# Altium footprint library PAL.PcbLib: 209 footprints (part 12 of 14)
Each footprint in its own frame and in the unit in brackets; x right, y up, seen from the top. Pads: shape width x height; smd on the part's side, far side on the other; paste and mask are expansions set on the pad; w line width, h text height; cw(c..) or ccw(c..) is an arc to the next point about the centre after c.
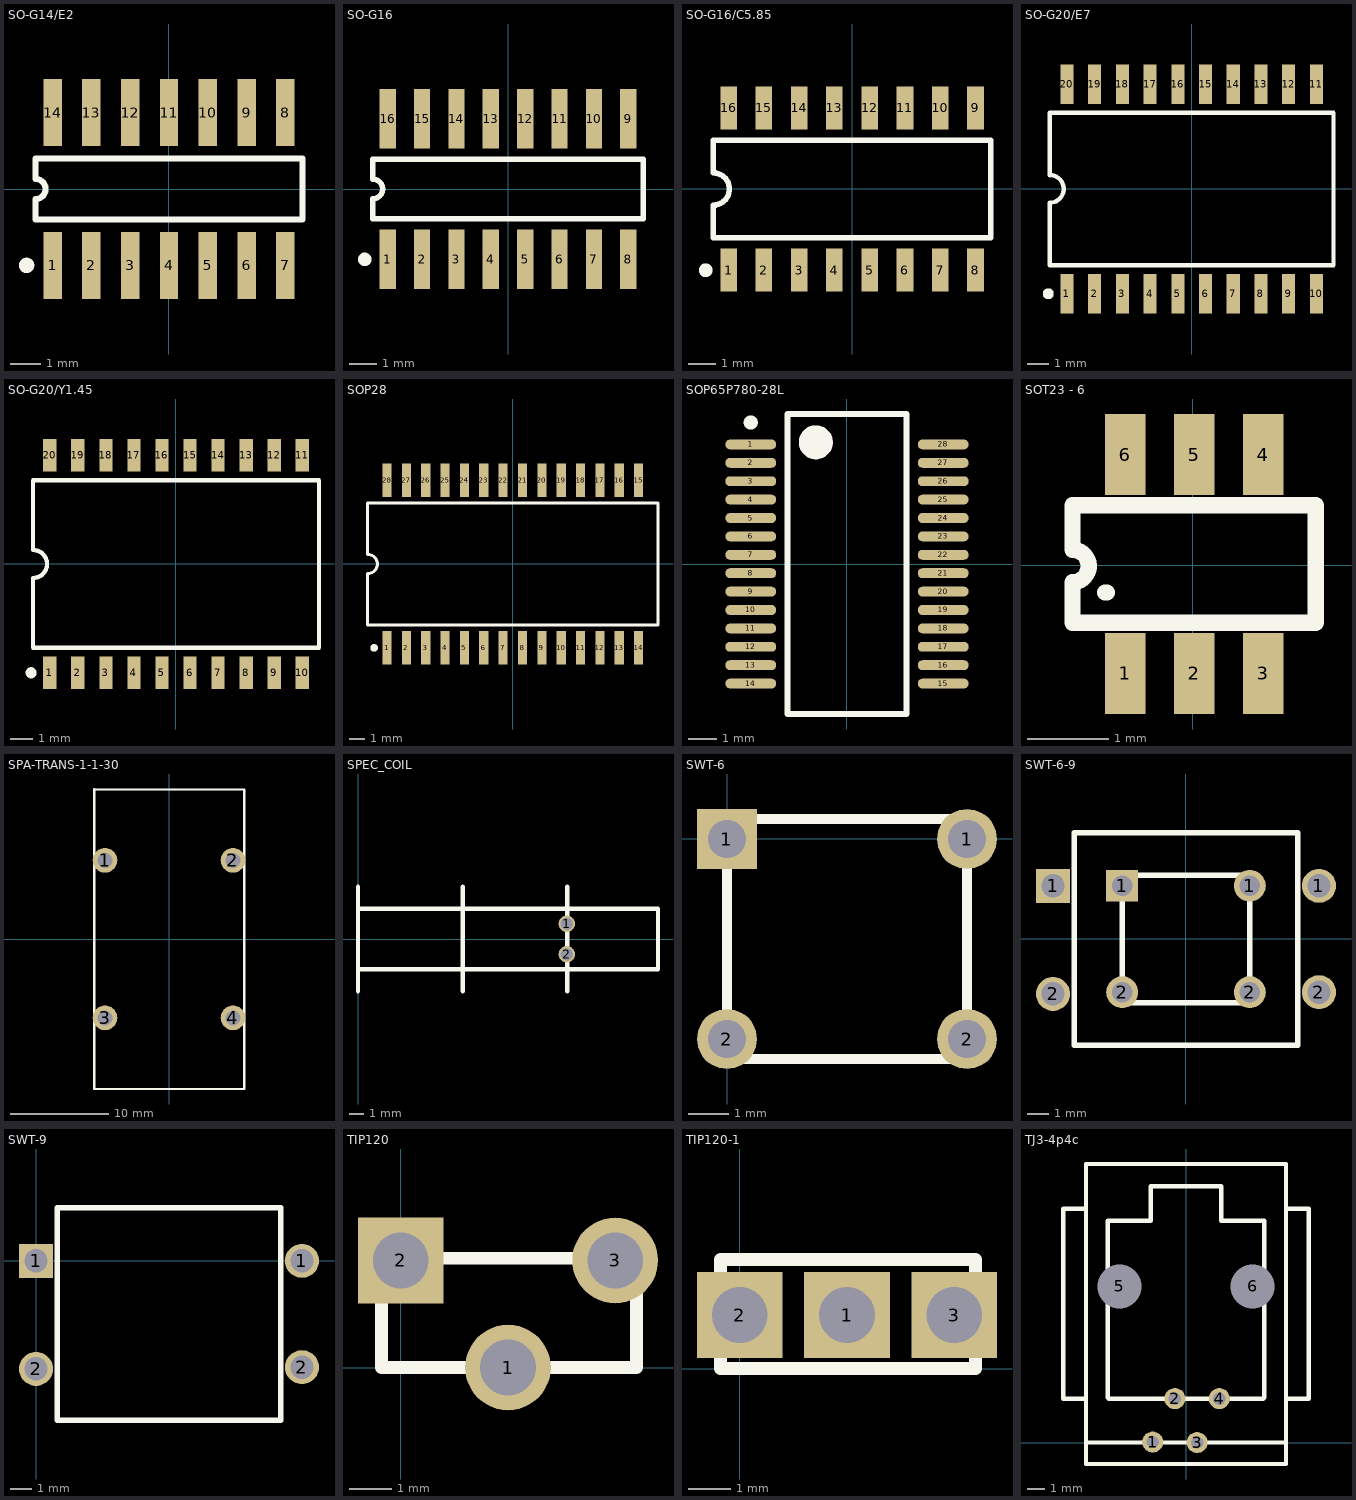
[diagram p11: the footprints below, top view; thin cyan lines are the x and y axes]

## SO-G14/E2 [mm]
pads (14):
  rect 0.6x2.2 smd: 1(-3.808,-2.494) 2(-2.538,-2.494) 3(-1.268,-2.494) 4(0.002,-2.494) 5(1.272,-2.494) 6(2.542,-2.494) 7(3.812,-2.494) 8(3.812,2.506) 9(2.542,2.506) 10(1.272,2.506) 11(0.002,2.506) 12(-1.268,2.506) 13(-2.538,2.506) 14(-3.808,2.506)
Top Overlay:
  circle w0.25: c-4.658,-2.494 r0.125
  lines w0.2: -4.373,-0.994 -4.373,-0.327 ccw(c-4.373,0.006) -4.373,0.34 -4.373,1.006 4.377,1.006 4.377,-0.994 -4.373,-0.994

## SO-G16 [mm]
pads (16):
  rect 0.6x2.2 smd: 1(-4.453,-2.589) 2(-3.183,-2.589) 3(-1.913,-2.589) 4(-0.643,-2.589) 5(0.627,-2.589) 6(1.897,-2.589) 7(3.167,-2.589) 8(4.437,-2.589) 9(4.437,2.611) 10(3.167,2.611) 11(1.897,2.611) 12(0.627,2.611) 13(-0.643,2.611) 14(-1.913,2.611) 15(-3.183,2.611) 16(-4.453,2.611)
Top Overlay:
  circle w0.25: c-5.303,-2.589 r0.125
  lines w0.2: -5.008,-1.089 4.992,-1.089 4.992,1.111 -5.008,1.111 -5.008,0.378 cw(c-5.008,0.011) -5.008,-0.356 -5.008,-1.089

## SO-G16/C5.85 [mm]
pads (16):
  rect 0.6x1.55 smd: 1(-4.452,-2.93) 2(-3.182,-2.93) 3(-1.912,-2.93) 4(-0.642,-2.93) 5(0.628,-2.93) 6(1.898,-2.93) 7(3.168,-2.93) 8(4.438,-2.93) 9(4.438,2.92) 10(3.168,2.92) 11(1.898,2.92) 12(0.628,2.92) 13(-0.642,2.92) 14(-1.912,2.92) 15(-3.182,2.92) 16(-4.452,2.92)
Top Overlay:
  circle w0.25: c-5.277,-2.93 r0.125
  lines w0.2: -5.007,-1.755 -5.007,-0.588 ccw(c-5.007,-0.005) -5.007,0.578 -5.007,1.745 4.993,1.745 4.993,-1.755 -5.007,-1.755

## SO-G20/E7 [mm]
pads (20):
  rect 0.6x1.8 smd: 1(-5.721,-4.803) 2(-4.451,-4.803) 3(-3.181,-4.803) 4(-1.911,-4.803) 5(-0.641,-4.803) 6(0.629,-4.803) 7(1.899,-4.803) 8(3.169,-4.803) 9(4.439,-4.803) 10(5.709,-4.803) 11(5.709,4.797) 12(4.439,4.797) 13(3.169,4.797) 14(1.899,4.797) 15(0.629,4.797) 16(-0.641,4.797) 17(-1.911,4.797) 18(-3.181,4.797) 19(-4.451,4.797) 20(-5.721,4.797)
Top Overlay:
  circle w0.25: c-6.581,-4.803 r0.125
  lines w0.2: -6.506,-0.638 -6.506,-3.503 6.494,-3.503 6.494,3.497 -6.506,3.497 -6.506,0.632 ; -6.506,-0.633 ccw(c-6.506,0.002) -6.506,0.637

## SO-G20/Y1.45 [mm]
pads (20):
  rect 0.6x1.45 smd: 1(-5.706,-4.925) 2(-4.436,-4.925) 3(-3.166,-4.925) 4(-1.896,-4.925) 5(-0.626,-4.925) 6(0.644,-4.925) 7(1.914,-4.925) 8(3.184,-4.925) 9(4.454,-4.925) 10(5.724,-4.925) 11(5.724,4.925) 12(4.454,4.925) 13(3.184,4.925) 14(1.914,4.925) 15(0.644,4.925) 16(-0.626,4.925) 17(-1.896,4.925) 18(-3.166,4.925) 19(-4.436,4.925) 20(-5.706,4.925)
Top Overlay:
  circle w0.25: c-6.556,-4.925 r0.125
  lines w0.2: -6.466,-3.8 -6.466,-0.635 ccw(c-6.466,0) -6.466,0.635 -6.466,3.8 6.484,3.8 6.484,-3.8 -6.466,-3.8

## SOP28 [mm]
pads (28):
  rect 0.6x2.2 smd: 1(-8.247,-5.502) 2(-6.977,-5.502) 3(-5.707,-5.502) 4(-4.437,-5.502) 5(-3.167,-5.502) 6(-1.897,-5.502) 7(-0.627,-5.502) 8(0.643,-5.502) 9(1.913,-5.502) 10(3.183,-5.502) 11(4.453,-5.502) 12(5.723,-5.502) 13(6.993,-5.502) 14(8.263,-5.502) 15(8.263,5.498) 16(6.993,5.498) 17(5.723,5.498) 18(4.453,5.498) 19(3.183,5.498) 20(1.913,5.498) 21(0.643,5.498) 22(-0.627,5.498) 23(-1.897,5.498) 24(-3.167,5.498) 25(-4.437,5.498) 26(-5.707,5.498) 27(-6.977,5.498) 28(-8.247,5.498)
Top Overlay:
  circle w0.25: c-9.097,-5.502 r0.125
  lines w0.2: -9.517,-4.002 -9.517,-0.637 ccw(c-9.517,-0.002) -9.517,0.633 -9.517,3.998 9.533,3.998 9.533,-4.002 -9.517,-4.002

## SOP65P780-28L [mm]
pads (28):
  oval 1.8x0.35 smd: 1(-3.396,4.231) 2(-3.396,3.581) 3(-3.396,2.931) 4(-3.396,2.281) 5(-3.396,1.631) 6(-3.396,0.981) 7(-3.396,0.331) 8(-3.396,-0.319) 9(-3.396,-0.969) 10(-3.396,-1.619) 11(-3.396,-2.269) 12(-3.396,-2.919) 13(-3.396,-3.569) 14(-3.396,-4.219) 15(3.404,-4.219) 16(3.404,-3.569) 17(3.404,-2.919) 18(3.404,-2.269) 19(3.404,-1.619) 20(3.404,-0.969) 21(3.404,-0.319) 22(3.404,0.331) 23(3.404,0.981) 24(3.404,1.631) 25(3.404,2.281) 26(3.404,2.931) 27(3.404,3.581) 28(3.404,4.231)
Top Overlay:
  circle w0.25: c-3.396,5.006 r0.125
  circle w0.6: c-1.096,4.306 r0.3
  lines w0.2: -2.096,-5.294 -2.096,5.306 2.104,5.306 2.104,-5.294 -2.096,-5.294

## SOT23 - 6 [mm]
pads (6):
  rect 0.5x1 smd: 1(-0.835,-1.337) 2(0.015,-1.337) 3(0.865,-1.337) 4(0.865,1.363) 5(0.015,1.363) 6(-0.835,1.363)
Top Overlay:
  lines w0.2: -1.085,-0.337 -1.06,-0.337 ; -1.485,-0.712 -1.485,-0.212 ccw(c-1.485,-0.012) -1.485,0.188 -1.485,0.738 1.515,0.738 1.515,-0.712 -1.485,-0.712

## SPA-TRANS-1-1-30 [mm]
pads (4):
  round 2.5 hole 1.5: 1(-6.5,8) 2(6.5,8) 3(-6.5,-8) 4(6.5,-8)
Top Overlay:
  lines w0.25: -7.6,-15.225 -7.6,15.25 -7.55,15.2 7.625,15.2 7.625,-15.225 -7.6,-15.225

## SPEC_COIL [mm]
pads (2):
  round 1.1 hole 0.85: 1(13.97,1.016) 2(13.97,-1.016)
Top Overlay:
  lines w0.3: 0,-3.5 0,3.5 ; 0,-2.032 20.066,-2.032 20.066,2.032 0,2.032 ; 7,-3.5 7,3.5 ; 14,-3.5 14,3.5

## SWT-6 [mm]
pads (4):
  rect 1.5x1.5 hole 0.95: 1(-0.009,-0.001)
  round 1.5 hole 0.95: 1(5.991,-0.001) 2(-0.009,-5.001) 2(5.991,-5.001)
Top Overlay:
  lines w0.254: -0.009,-5.501 -0.009,0.499 5.991,0.499 5.991,-5.501 -0.009,-5.501

## SWT-6-9 [mm]
pads (8):
  rect 1.6x1.6 hole 1.1: 1(-6.241,2.491)
  rect 1.5x1.5 hole 0.95: 1(-2.991,2.493)
  round 1.5 hole 0.95: 1(3.009,2.493) 2(-2.991,-2.507) 2(3.009,-2.507)
  round 1.6 hole 1.1: 1(6.259,2.491) 2(-6.241,-2.589) 2(6.259,-2.509)
Top Overlay:
  lines w0.254: -5.241,-5.009 5.259,-5.009 5.259,4.991 -5.241,4.991 -5.241,-5.009 ; -2.991,-3.007 3.009,-3.007 3.009,2.993 -2.991,2.993 -2.991,-3.007

## SWT-9 [mm]
pads (4):
  rect 1.6x1.6 hole 1.1: 1(-0.009,-0.003)
  round 1.6 hole 1.1: 1(12.491,-0.003) 2(-0.009,-5.083) 2(12.491,-5.003)
Top Overlay:
  lines w0.254: 0.991,-7.503 11.491,-7.503 11.491,2.497 0.991,2.497 0.991,-7.503

## TIP120 [mm]
pads (3):
  round 2 hole 1.3: 1(2.5,0) 3(5,2.5)
  rect 2x2 hole 1.3: 2(0,2.5)
Top Overlay:
  lines w0.3: -0.45,0 -0.45,2.55 5.5,2.55 5.5,0 0,0 -0.45,0

## TIP120-1 [mm]
pads (3):
  rect 2x2 hole 1.3: 1(2.5,1.25) 2(0,1.25) 3(5,1.25)
Top Overlay:
  lines w0.3: -0.45,0 0,0 5.5,0 5.5,2.55 -0.45,2.55 -0.45,0

## TJ3-4p4c [mm]
pads (6):
  round 1.2 hole 0.7: 1(-1.9,0.025) 2(-0.635,2.5) 3(0.635,0) 4(1.9,2.5)
  round 1.2 hole 2.5: 5(-3.8,8.9) 6(3.8,8.9)
Top Overlay:
  lines w0.254: -5.7,2.5 -7,2.5 -7,13.325 -5.7,13.325 ; -0.025,2.5 -4.4,2.5 -4.45,2.55 -4.45,12.65 -2,12.65 -2,14.6 0,14.6 2,14.6 2,12.65 4.45,12.65 4.45,2.55 4.4,2.5 0.025,2.5 ; 5.7,2.5 7,2.5 7,13.325 5.7,13.325 ; -5.7,0 -5.7,15.875 0,15.875 5.7,15.875 5.7,0 ; -5.7,0 0,0 5.7,0 ; -5.7,0 -5.7,-1.225 5.7,-1.225 5.7,0